# Altium schematic symbol library Transistors.SchLib: 9 symbols
Pins are listed as number, name and electrical type; pins without a type are passive.

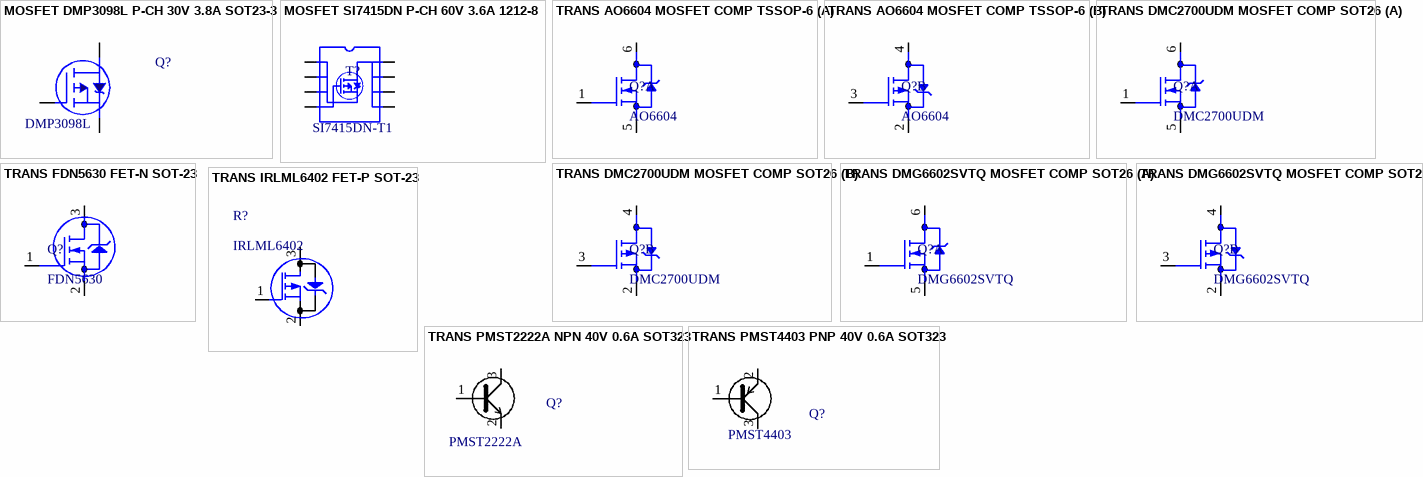
[diagram p0: symbols MOSFET DMP3098L P-CH 30V 3.8A SOT23-3 to TRANS PMST4403 PNP 40V 0.6A SOT323]

## MOSFET DMP3098L P-CH 30V 3.8A SOT23-3
designator Q?  value DMP3098L
P-Channel 30V 3.8A (Ta) 1.08W (Ta) Surface Mount SOT-23-3; PartNumber1: DMP3098L-7
footprint SOT23-3 (SOT23, 3-Leads, Body 3,0x2,5mm (max), Pitch 0,83mm, IPC Medium Density)
pins: 1 G, 2 S, 3 D

## MOSFET SI7415DN P-CH 60V 3.6A 1212-8
designator T?  value SI7415DN-T1  (hidden comment: *)
P-Channel 60V 3.6A (Ta) 1.5W (Ta) Surface Mount PowerPAK® 1212-8; PartNumber1: SI7415DN-T1-GE3
footprint PowerPAK1212-8S
pins: 1 S, 2 S, 3 S, 4 G, 5 D, 6 D, 7 D, 8 D

## TRANS AO6604 MOSFET COMP TSSOP-6
designator Q?, comment AO6604
Mosfet Array N and P-Channel Complementary 20V 3.4A, 2.5A 1.1W Surface Mount 6-TSOP; Manufacturer 1: Alpha & Omega Semiconductor Inc.; VALUE: AO6604; Part Number 1: AO6604
footprint TSOP6
part A pins: 1 G, 5 S, 6 D
part B pins: 2 S, 3 G, 4 D

## TRANS DMC2700UDM MOSFET COMP SOT26
designator Q?, comment DMC2700UDM
Mosfet Array N and P-Channel 20V 1.34A, 1.14A 1.12W Surface Mount SOT-26; Part Number 1: DMC2700UDM-7; Manufacturer 1: Diodes Incorporated; VALUE: DMC2700UDM
footprint SOT-26
part A pins: 1 G, 5 S, 6 D
part B pins: 2 S, 3 G, 4 D

## TRANS DMG6602SVTQ MOSFET COMP SOT26
designator Q?, comment DMG6602SVTQ
Mosfet Array N and P-Channel 30V 3.4A, 2.8A 840mW Surface Mount TSOT-26; Manufacturer 1: Diodes Incorporated; Part Number 1: DMG6602SVTQ-7; Supplier 1: Digi-Key; Supplier 2: Digi-Key; Supplier 3: Digi-Key; Supplier 4: Mouser; Supplier 5: Arrow Electronics Inc.; Supplier 6: Avnet; Supplier Part Number 2: DMG6602SVTQ-7DIDKR-ND; Supplier Part Number 3: DMG6602SVTQ-7DITR-ND; Supplier Part Number 4: 621-DMG6602SVTQ-7; Supplier Part Number 5: DMG6602SVTQ-7; Supplier Part Number 6: DMG6602SVTQ-7; Supplier Part Number 1: DMG6602SVTQ-7DICT-ND
footprint SOT-26
part A pins: 1 G, 5 S, 6 D
part B pins: 2 S, 3 G, 4 D

## TRANS FDN5630 FET-N SOT-23
designator Q?, comment FDN5630
N-Channel 60V 1.7A (Ta) 500mW (Ta) Surface Mount SuperSOT-3; Manufacturer 1: ON Semiconductor; VALUE: FDN5630; Part Number 1: FDN5630
footprint SOT23-3 (SOT23, 3-Leads, Body 3,0x2,5mm (max), Pitch 0,83mm, IPC Medium Density)
pins: 1 G, 2 S, 3 D

## TRANS IRLML6402 FET-P SOT-23
designator R?, comment IRLML6402
P-Channel 20V 3.7A (Ta) 1.3W (Ta) Surface Mount Micro3™/SOT-23; Part Number 1: IRLML6402TRPBF; Manufacturer 1: Infineon Technologies; VALUE: IRLML6402
footprint SOT23-3 (SOT23, 3-Leads, Body 3,0x2,5mm (max), Pitch 0,83mm, IPC Medium Density)
pins: 1 G, 2 S, 3 D

## TRANS PMST2222A NPN 40V 0.6A SOT323
designator Q?  value PMST2222A  (hidden comment: *)
Bipolar (BJT) Transistor NPN 40V 600mA 300MHz 200mW Surface Mount SC-70; PartNumber1: PMST2222A,115
footprint SOT323
pins: 1 B, 2 E, 3 C

## TRANS PMST4403 PNP 40V 0.6A SOT323
designator Q?  value PMST4403
Bipolar (BJT) Transistor PNP 40V 600mA 200MHz 200mW Surface Mount SC-70; PartNumber1: PMST4403,115
footprint SOT323
pins: 1 B, 2 E, 3 C